# EAGLE library part 692121030100 (library 692121030100)
WR-COM USB 3.0 Connector A horizontal Wurth Elektronik WR-COM Series, Right Angle Version 3.0 Type A USB Connector, Through Hole Socket, 30 V ac, 0.25A Source: Datasheet <https://componentsearchengine.com/Datasheets/1/692121030100.pdf>
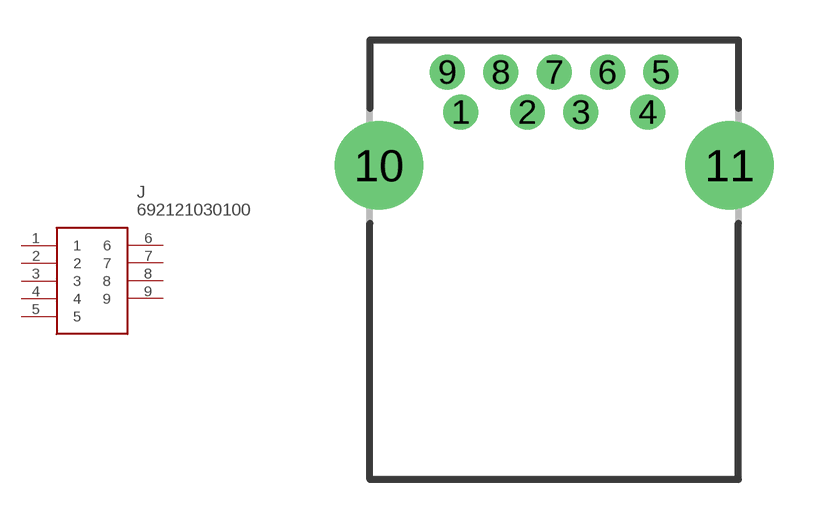
[diagram p0: symbol with the pads of 692121030100; footprint 692121030100]

Designator prefix J

## 692121030100 (Description: WR-COM USB 3.0 Connector A horizontal Wurth Elektronik WR-COM Series, Right Angle Version 3.0 Type A USB Connector, Through Hole Socket, 30 V ac, 0.25A; Height: mm; Manufacturer_Name: Wurth Elektronik; Manufacturer_Part_Number: 692121030100; Mouser_Part_Number: 710-692121030100; Mouser_Price-Stock: https://www.mouser.com/Search/Refine.aspx?Keyword=710-692121030100)  [692121030100]
1  1
2  2
3  3
4  4
5  5
6  6
7  7
8  8
9  9

## Footprint 692121030100 (pad centres in mm)
692121030100
drill 0.8 pad 1.3: 1 3.4,13.78; 2 5.9,13.78; 3 7.9,13.78; 4 10.4,13.78; 5 10.9,15.28; 6 8.9,15.28; 7 6.9,15.28; 8 4.9,15.28; 9 2.9,15.28
drill 2.3 pad 3.3: 10 0.33,11.78; 11 13.47,11.78